# Altium schematic symbol library OPTO-AKCE-4.SchLib: 1 symbol
Pins are listed as number, name and electrical type; pins without a type are passive.

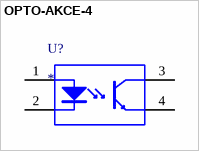
[diagram p0: symbol OPTO-AKCE-4]

## OPTO-AKCE-4
designator U?
pins: 1 ANODE, 2 CATHODE, 3 COLLECTOR, 4 EMITTER